# Altium footprint library Con IDC.PcbLib: 105 footprints (part 7 of 7)
Each footprint in its own frame and in the unit in brackets; x right, y up, seen from the top. Pads: shape width x height; smd on the part's side, far side on the other; paste and mask are expansions set on the pad; w line width, h text height; cw(c..) or ccw(c..) is an arc to the next point about the centre after c.
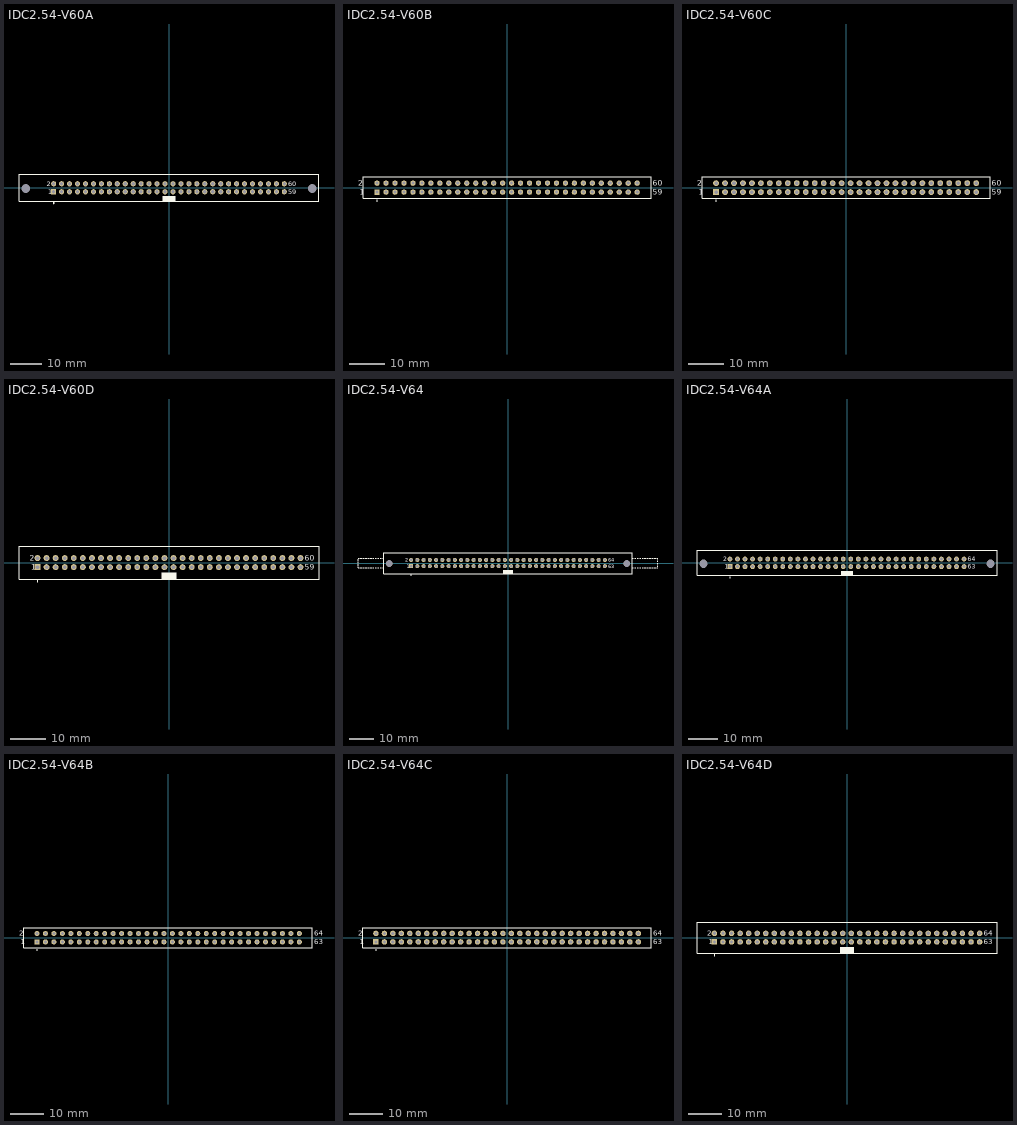
[diagram p6: the footprints below, top view; thin cyan lines are the x and y axes]

## IDC2.54-V60A [mm] "Connector; IDC, Thru-Hole; 60 Position; Vertical; Pitch 2.54 mm; Body 95.80 x 8.5 x 17.30 mm (LxWxH), Without locking levers"
height 17.3
pads (62):
  rect 1.65x1.65 hole 1: 1(-36.83,-1.27)
  round 1.65 hole 1: 2(-36.83,1.27) 3(-34.29,-1.27) 4(-34.29,1.27) 5(-31.75,-1.27) 6(-31.75,1.27) 7(-29.21,-1.27) 8(-29.21,1.27) 9(-26.67,-1.27) 10(-26.67,1.27) 11(-24.13,-1.27) 12(-24.13,1.27) 13(-21.59,-1.27) 14(-21.59,1.27) 15(-19.05,-1.27) 16(-19.05,1.27) 17(-16.51,-1.27) 18(-16.51,1.27) 19(-13.97,-1.27) 20(-13.97,1.27) 21(-11.43,-1.27) 22(-11.43,1.27) 23(-8.89,-1.27) 24(-8.89,1.27) 25(-6.35,-1.27) 26(-6.35,1.27) 27(-3.81,-1.27) 28(-3.81,1.27) 29(-1.27,-1.27) 30(-1.27,1.27) 31(1.27,-1.27) 32(1.27,1.27) 33(3.81,-1.27) 34(3.81,1.27) 35(6.35,-1.27) 36(6.35,1.27) 37(8.89,-1.27) 38(8.89,1.27) 39(11.43,-1.27) 40(11.43,1.27) 41(13.97,-1.27) 42(13.97,1.27) 43(16.51,-1.27) 44(16.51,1.27) 45(19.05,-1.27) 46(19.05,1.27) 47(21.59,-1.27) 48(21.59,1.27) 49(24.13,-1.27) 50(24.13,1.27) 51(26.67,-1.27) 52(26.67,1.27) 53(29.21,-1.27) 54(29.21,1.27) 55(31.75,-1.27) 56(31.75,1.27) 57(34.29,-1.27) 58(34.29,1.27) 59(36.83,-1.27) 60(36.83,1.27)
  round 2.5 hole 2.8 unplated: MH1(-45.72,-0.25) MH2(45.72,-0.25)
Top Overlay:
  circle w0.25: c-36.83,-4.9 r0.125
  rectangle: -2.05,-4.25 2.05,-2.7
  lines w0.2: -47.9,-4.25 47.9,-4.25 47.9,4.25 -47.9,4.25 -47.9,-4.25
  text "59" at 38.11,-2.02 h1.5
  text "60" at 38.11,0.52 h1.5
  text "1" at -38.61,-2.02 h1.5
  text "2" at -39.11,0.52 h1.5

## IDC2.54-V60B [mm] "Connector; IDC, PCB Transition - 2 Rows, Thru-Hole; 60 Position; Vertical; Pitch 2.54 mm; Body 81.50 x 6.1 x 7.45 mm (LxWxH)"
height 7.45
pads (60):
  rect 1.5x1.5 hole 0.9: 1(-36.83,-1.27)
  round 1.5 hole 0.9: 2(-36.83,1.27) 3(-34.29,-1.27) 4(-34.29,1.27) 5(-31.75,-1.27) 6(-31.75,1.27) 7(-29.21,-1.27) 8(-29.21,1.27) 9(-26.67,-1.27) 10(-26.67,1.27) 11(-24.13,-1.27) 12(-24.13,1.27) 13(-21.59,-1.27) 14(-21.59,1.27) 15(-19.05,-1.27) 16(-19.05,1.27) 17(-16.51,-1.27) 18(-16.51,1.27) 19(-13.97,-1.27) 20(-13.97,1.27) 21(-11.43,-1.27) 22(-11.43,1.27) 23(-8.89,-1.27) 24(-8.89,1.27) 25(-6.35,-1.27) 26(-6.35,1.27) 27(-3.81,-1.27) 28(-3.81,1.27) 29(-1.27,-1.27) 30(-1.27,1.27) 31(1.27,-1.27) 32(1.27,1.27) 33(3.81,-1.27) 34(3.81,1.27) 35(6.35,-1.27) 36(6.35,1.27) 37(8.89,-1.27) 38(8.89,1.27) 39(11.43,-1.27) 40(11.43,1.27) 41(13.97,-1.27) 42(13.97,1.27) 43(16.51,-1.27) 44(16.51,1.27) 45(19.05,-1.27) 46(19.05,1.27) 47(21.59,-1.27) 48(21.59,1.27) 49(24.13,-1.27) 50(24.13,1.27) 51(26.67,-1.27) 52(26.67,1.27) 53(29.21,-1.27) 54(29.21,1.27) 55(31.75,-1.27) 56(31.75,1.27) 57(34.29,-1.27) 58(34.29,1.27) 59(36.83,-1.27) 60(36.83,1.27)
Top Overlay:
  circle w0.25: c-36.83,-3.7 r0.125
  lines w0.2: -40.75,-3.05 -40.75,3.05 40.75,3.05 40.75,-3.05 -40.75,-3.05
  text "60" at 41.225,0.52 h1.5
  text "59" at 41.225,-2.02 h1.5
  text "2" at -42.225,0.52 h1.5
  text "1" at -41.725,-2.02 h1.5

## IDC2.54-V60C [mm] "Connector; IDC, PCB Transition - 2 Rows, Thru-Hole; 60 Position; Vertical; Pitch 2.54 mm; Body 81.50 x 6.1 x 7.45 mm (LxWxH), Kinked Contacts"
height 7.45
pads (60):
  rect 1.65x1.65 hole 1: 1(-36.83,-1.27)
  round 1.65 hole 1: 2(-36.83,1.27) 3(-34.29,-1.27) 4(-34.29,1.27) 5(-31.75,-1.27) 6(-31.75,1.27) 7(-29.21,-1.27) 8(-29.21,1.27) 9(-26.67,-1.27) 10(-26.67,1.27) 11(-24.13,-1.27) 12(-24.13,1.27) 13(-21.59,-1.27) 14(-21.59,1.27) 15(-19.05,-1.27) 16(-19.05,1.27) 17(-16.51,-1.27) 18(-16.51,1.27) 19(-13.97,-1.27) 20(-13.97,1.27) 21(-11.43,-1.27) 22(-11.43,1.27) 23(-8.89,-1.27) 24(-8.89,1.27) 25(-6.35,-1.27) 26(-6.35,1.27) 27(-3.81,-1.27) 28(-3.81,1.27) 29(-1.27,-1.27) 30(-1.27,1.27) 31(1.27,-1.27) 32(1.27,1.27) 33(3.81,-1.27) 34(3.81,1.27) 35(6.35,-1.27) 36(6.35,1.27) 37(8.89,-1.27) 38(8.89,1.27) 39(11.43,-1.27) 40(11.43,1.27) 41(13.97,-1.27) 42(13.97,1.27) 43(16.51,-1.27) 44(16.51,1.27) 45(19.05,-1.27) 46(19.05,1.27) 47(21.59,-1.27) 48(21.59,1.27) 49(24.13,-1.27) 50(24.13,1.27) 51(26.67,-1.27) 52(26.67,1.27) 53(29.21,-1.27) 54(29.21,1.27) 55(31.75,-1.27) 56(31.75,1.27) 57(34.29,-1.27) 58(34.29,1.27) 59(36.83,-1.27) 60(36.83,1.27)
Top Overlay:
  circle w0.25: c-36.83,-3.7 r0.125
  lines w0.2: -40.75,-3.05 40.75,-3.05 40.75,3.05 -40.75,3.05 -40.75,-3.05
  text "1" at -41.725,-2.02 h1.5
  text "2" at -42.225,0.52 h1.5
  text "59" at 41.225,-2.02 h1.5
  text "60" at 41.225,0.52 h1.5

## IDC2.54-V60D [mm] "Connector; IDC, Low Profile Male Header, Thru-Hole; 60 Position; Vertical; Pitch 2.54 mm; Body 84.02 x 9.2 x 9.45 mm (LxWxH)"
height 9.45
pads (60):
  rect 1.65x1.65 hole 1: 1(-36.83,-1.27)
  round 1.65 hole 1: 2(-36.83,1.27) 3(-34.29,-1.27) 4(-34.29,1.27) 5(-31.75,-1.27) 6(-31.75,1.27) 7(-29.21,-1.27) 8(-29.21,1.27) 9(-26.67,-1.27) 10(-26.67,1.27) 11(-24.13,-1.27) 12(-24.13,1.27) 13(-21.59,-1.27) 14(-21.59,1.27) 15(-19.05,-1.27) 16(-19.05,1.27) 17(-16.51,-1.27) 18(-16.51,1.27) 19(-13.97,-1.27) 20(-13.97,1.27) 21(-11.43,-1.27) 22(-11.43,1.27) 23(-8.89,-1.27) 24(-8.89,1.27) 25(-6.35,-1.27) 26(-6.35,1.27) 27(-3.81,-1.27) 28(-3.81,1.27) 29(-1.27,-1.27) 30(-1.27,1.27) 31(1.27,-1.27) 32(1.27,1.27) 33(3.81,-1.27) 34(3.81,1.27) 35(6.35,-1.27) 36(6.35,1.27) 37(8.89,-1.27) 38(8.89,1.27) 39(11.43,-1.27) 40(11.43,1.27) 41(13.97,-1.27) 42(13.97,1.27) 43(16.51,-1.27) 44(16.51,1.27) 45(19.05,-1.27) 46(19.05,1.27) 47(21.59,-1.27) 48(21.59,1.27) 49(24.13,-1.27) 50(24.13,1.27) 51(26.67,-1.27) 52(26.67,1.27) 53(29.21,-1.27) 54(29.21,1.27) 55(31.75,-1.27) 56(31.75,1.27) 57(34.29,-1.27) 58(34.29,1.27) 59(36.83,-1.27) 60(36.83,1.27)
Top Overlay:
  circle w0.25: c-36.83,-5.25 r0.125
  rectangle: -2.05,-4.6 2.05,-2.7
  lines w0.2: -42.01,-4.6 42.01,-4.6 42.01,4.6 -42.01,4.6 -42.01,-4.6
  text "59" at 38.03,-2.02 h1.5
  text "60" at 38.03,0.52 h1.5
  text "1" at -38.53,-2.02 h1.5
  text "2" at -39.03,0.52 h1.5

## IDC2.54-V64 [mm] "Connector; IDC, Thru-Hole; 64 Position; Vertical; Pitch 2.54 mm; Body 100.88 x 8.5 x 25.75 mm (LxWxH), Locking levers"
height 25.75
pads (66):
  rect 1.65x1.65 hole 1: 1(-39.37,-1.27)
  round 1.65 hole 1: 2(-39.37,1.27) 3(-36.83,-1.27) 4(-36.83,1.27) 5(-34.29,-1.27) 6(-34.29,1.27) 7(-31.75,-1.27) 8(-31.75,1.27) 9(-29.21,-1.27) 10(-29.21,1.27) 11(-26.67,-1.27) 12(-26.67,1.27) 13(-24.13,-1.27) 14(-24.13,1.27) 15(-21.59,-1.27) 16(-21.59,1.27) 17(-19.05,-1.27) 18(-19.05,1.27) 19(-16.51,-1.27) 20(-16.51,1.27) 21(-13.97,-1.27) 22(-13.97,1.27) 23(-11.43,-1.27) 24(-11.43,1.27) 25(-8.89,-1.27) 26(-8.89,1.27) 27(-6.35,-1.27) 28(-6.35,1.27) 29(-3.81,-1.27) 30(-3.81,1.27) 31(-1.27,-1.27) 32(-1.27,1.27) 33(1.27,-1.27) 34(1.27,1.27) 35(3.81,-1.27) 36(3.81,1.27) 37(6.35,-1.27) 38(6.35,1.27) 39(8.89,-1.27) 40(8.89,1.27) 41(11.43,-1.27) 42(11.43,1.27) 43(13.97,-1.27) 44(13.97,1.27) 45(16.51,-1.27) 46(16.51,1.27) 47(19.05,-1.27) 48(19.05,1.27) 49(21.59,-1.27) 50(21.59,1.27) 51(24.13,-1.27) 52(24.13,1.27) 53(26.67,-1.27) 54(26.67,1.27) 55(29.21,-1.27) 56(29.21,1.27) 57(31.75,-1.27) 58(31.75,1.27) 59(34.29,-1.27) 60(34.29,1.27) 61(36.83,-1.27) 62(36.83,1.27) 63(39.37,-1.27) 64(39.37,1.27)
  round 2.5 hole 2.8 unplated: MH1(-48.26,-0.25) MH2(48.26,-0.25)
Top Overlay:
  circle w0.25: c-39.37,-4.9 r0.125
  rectangle: -2.05,-4.25 2.05,-2.75
  lines w0.2: -60.94,-1.5 -60.94,-2 -60.44,-2 ; -60.94,-1 -60.94,-0.5 ; -60.94,0 -60.94,0.5 ; -60.94,1 -60.94,1.5 ; -60.94,2 -60.44,2 ; -59.94,-2 -59.44,-2 ; -59.94,2 -59.44,2 ; -58.94,-2 -58.44,-2 ; -58.94,2 -58.44,2 ; -57.94,-2 -57.44,-2 ; -57.94,2 -57.44,2 ; -56.94,-2 -56.44,-2 ; -56.94,2 -56.44,2 ; -55.94,-2 -55.44,-2 ; -55.94,2 -55.44,2 ; -54.94,-2 -54.44,-2 ; -54.94,2 -54.44,2 ; -53.94,-2 -53.44,-2 ; -53.94,2 -53.44,2 ; -52.94,-2 -52.44,-2 ; -52.94,2 -52.44,2 ; -51.94,-2 -51.44,-2 ; -51.94,2 -51.44,2 ; -50.94,-2 -50.44,-2 ; -50.94,2 -50.44,2 ; 50.44,-2 50.94,-2 ; 50.44,2 50.94,2 ; 51.44,-2 51.94,-2 ; 51.44,2 51.94,2 ; 52.44,-2 52.94,-2 ; 52.44,2 52.94,2 ; 53.44,-2 53.94,-2 ; 53.44,2 53.94,2 ; 54.44,-2 54.94,-2 ; 54.44,2 54.94,2 ; 55.44,-2 55.94,-2 ; 55.44,2 55.94,2 ; 56.44,-2 56.94,-2 ; 56.44,2 56.94,2 ; 57.44,-2 57.94,-2 ; 57.44,2 57.94,2 ; 58.44,-2 58.94,-2 ; 58.44,2 58.94,2 ; 59.44,-2 59.94,-2 ; 59.44,2 59.94,2 ; 60.44,-2 60.94,-2 ; 60.44,2 60.94,2 60.94,1.5 ; 60.94,-1.5 60.94,-1 ; 60.94,-0.5 60.94,0 ; 60.94,0.5 60.94,1 ; -50.44,-4.25 -50.44,4.25 50.44,4.25 50.44,-4.25 -50.44,-4.25
  text "2" at -41.65,0.52 h1.5
  text "1" at -41.15,-2.02 h1.5
  text "64" at 40.65,0.52 h1.5
  text "63" at 40.65,-2.02 h1.5

## IDC2.54-V64A [mm] "Connector; IDC, Thru-Hole; 64 Position; Vertical; Pitch 2.54 mm; Body 100.88 x 8.5 x 17.30 mm (LxWxH), Without locking levers"
height 17.3
pads (66):
  rect 1.65x1.65 hole 1: 1(-39.37,-1.27)
  round 1.65 hole 1: 2(-39.37,1.27) 3(-36.83,-1.27) 4(-36.83,1.27) 5(-34.29,-1.27) 6(-34.29,1.27) 7(-31.75,-1.27) 8(-31.75,1.27) 9(-29.21,-1.27) 10(-29.21,1.27) 11(-26.67,-1.27) 12(-26.67,1.27) 13(-24.13,-1.27) 14(-24.13,1.27) 15(-21.59,-1.27) 16(-21.59,1.27) 17(-19.05,-1.27) 18(-19.05,1.27) 19(-16.51,-1.27) 20(-16.51,1.27) 21(-13.97,-1.27) 22(-13.97,1.27) 23(-11.43,-1.27) 24(-11.43,1.27) 25(-8.89,-1.27) 26(-8.89,1.27) 27(-6.35,-1.27) 28(-6.35,1.27) 29(-3.81,-1.27) 30(-3.81,1.27) 31(-1.27,-1.27) 32(-1.27,1.27) 33(1.27,-1.27) 34(1.27,1.27) 35(3.81,-1.27) 36(3.81,1.27) 37(6.35,-1.27) 38(6.35,1.27) 39(8.89,-1.27) 40(8.89,1.27) 41(11.43,-1.27) 42(11.43,1.27) 43(13.97,-1.27) 44(13.97,1.27) 45(16.51,-1.27) 46(16.51,1.27) 47(19.05,-1.27) 48(19.05,1.27) 49(21.59,-1.27) 50(21.59,1.27) 51(24.13,-1.27) 52(24.13,1.27) 53(26.67,-1.27) 54(26.67,1.27) 55(29.21,-1.27) 56(29.21,1.27) 57(31.75,-1.27) 58(31.75,1.27) 59(34.29,-1.27) 60(34.29,1.27) 61(36.83,-1.27) 62(36.83,1.27) 63(39.37,-1.27) 64(39.37,1.27)
  round 2.5 hole 2.8 unplated: MH1(-48.26,-0.25) MH2(48.26,-0.25)
Top Overlay:
  circle w0.25: c-39.37,-4.9 r0.125
  rectangle: -2.05,-4.25 2.05,-2.75
  lines w0.2: -50.44,-4.25 -50.44,4.25 50.44,4.25 50.44,-4.25 -50.44,-4.25
  text "2" at -41.65,0.52 h1.5
  text "1" at -41.15,-2.02 h1.5
  text "64" at 40.65,0.52 h1.5
  text "63" at 40.65,-2.02 h1.5

## IDC2.54-V64B [mm] "Connector; IDC, PCB Transition - 2 Rows, Thru-Hole; 64 Position; Vertical; Pitch 2.54 mm; Body 86.58 x 6.1 x 7.45 mm (LxWxH)"
height 7.45
pads (64):
  rect 1.5x1.5 hole 0.9: 1(-39.37,-1.27)
  round 1.5 hole 0.9: 2(-39.37,1.27) 3(-36.83,-1.27) 4(-36.83,1.27) 5(-34.29,-1.27) 6(-34.29,1.27) 7(-31.75,-1.27) 8(-31.75,1.27) 9(-29.21,-1.27) 10(-29.21,1.27) 11(-26.67,-1.27) 12(-26.67,1.27) 13(-24.13,-1.27) 14(-24.13,1.27) 15(-21.59,-1.27) 16(-21.59,1.27) 17(-19.05,-1.27) 18(-19.05,1.27) 19(-16.51,-1.27) 20(-16.51,1.27) 21(-13.97,-1.27) 22(-13.97,1.27) 23(-11.43,-1.27) 24(-11.43,1.27) 25(-8.89,-1.27) 26(-8.89,1.27) 27(-6.35,-1.27) 28(-6.35,1.27) 29(-3.81,-1.27) 30(-3.81,1.27) 31(-1.27,-1.27) 32(-1.27,1.27) 33(1.27,-1.27) 34(1.27,1.27) 35(3.81,-1.27) 36(3.81,1.27) 37(6.35,-1.27) 38(6.35,1.27) 39(8.89,-1.27) 40(8.89,1.27) 41(11.43,-1.27) 42(11.43,1.27) 43(13.97,-1.27) 44(13.97,1.27) 45(16.51,-1.27) 46(16.51,1.27) 47(19.05,-1.27) 48(19.05,1.27) 49(21.59,-1.27) 50(21.59,1.27) 51(24.13,-1.27) 52(24.13,1.27) 53(26.67,-1.27) 54(26.67,1.27) 55(29.21,-1.27) 56(29.21,1.27) 57(31.75,-1.27) 58(31.75,1.27) 59(34.29,-1.27) 60(34.29,1.27) 61(36.83,-1.27) 62(36.83,1.27) 63(39.37,-1.27) 64(39.37,1.27)
Top Overlay:
  circle w0.25: c-39.37,-3.7 r0.125
  lines w0.2: -43.29,-3.05 -43.29,3.05 43.29,3.05 43.29,-3.05 -43.29,-3.05
  text "64" at 43.765,0.52 h1.5
  text "63" at 43.765,-2.02 h1.5
  text "2" at -44.765,0.52 h1.5
  text "1" at -44.265,-2.02 h1.5

## IDC2.54-V64C [mm] "Connector; IDC, PCB Transition - 2 Rows, Thru-Hole; 64 Position; Vertical; Pitch 2.54 mm; Body 86.58 x 6.1 x 7.45 mm (LxWxH), Kinked Contacts"
height 7.45
pads (64):
  rect 1.65x1.65 hole 1: 1(-39.37,-1.27)
  round 1.65 hole 1: 2(-39.37,1.27) 3(-36.83,-1.27) 4(-36.83,1.27) 5(-34.29,-1.27) 6(-34.29,1.27) 7(-31.75,-1.27) 8(-31.75,1.27) 9(-29.21,-1.27) 10(-29.21,1.27) 11(-26.67,-1.27) 12(-26.67,1.27) 13(-24.13,-1.27) 14(-24.13,1.27) 15(-21.59,-1.27) 16(-21.59,1.27) 17(-19.05,-1.27) 18(-19.05,1.27) 19(-16.51,-1.27) 20(-16.51,1.27) 21(-13.97,-1.27) 22(-13.97,1.27) 23(-11.43,-1.27) 24(-11.43,1.27) 25(-8.89,-1.27) 26(-8.89,1.27) 27(-6.35,-1.27) 28(-6.35,1.27) 29(-3.81,-1.27) 30(-3.81,1.27) 31(-1.27,-1.27) 32(-1.27,1.27) 33(1.27,-1.27) 34(1.27,1.27) 35(3.81,-1.27) 36(3.81,1.27) 37(6.35,-1.27) 38(6.35,1.27) 39(8.89,-1.27) 40(8.89,1.27) 41(11.43,-1.27) 42(11.43,1.27) 43(13.97,-1.27) 44(13.97,1.27) 45(16.51,-1.27) 46(16.51,1.27) 47(19.05,-1.27) 48(19.05,1.27) 49(21.59,-1.27) 50(21.59,1.27) 51(24.13,-1.27) 52(24.13,1.27) 53(26.67,-1.27) 54(26.67,1.27) 55(29.21,-1.27) 56(29.21,1.27) 57(31.75,-1.27) 58(31.75,1.27) 59(34.29,-1.27) 60(34.29,1.27) 61(36.83,-1.27) 62(36.83,1.27) 63(39.37,-1.27) 64(39.37,1.27)
Top Overlay:
  circle w0.25: c-39.37,-3.7 r0.125
  lines w0.2: -43.29,-3.05 -43.29,3.05 43.29,3.05 43.29,-3.05 -43.29,-3.05
  text "64" at 43.765,0.52 h1.5
  text "63" at 43.765,-2.02 h1.5
  text "2" at -44.765,0.52 h1.5
  text "1" at -44.265,-2.02 h1.5

## IDC2.54-V64D [mm] "Connector; IDC, Low Profile Male Header, Thru-Hole; 64 Position; Vertical; Pitch 2.54 mm; Body 89.10 x 9.2 x 9.45 mm (LxWxH)"
height 9.45
pads (64):
  rect 1.65x1.65 hole 1: 1(-39.37,-1.27)
  round 1.65 hole 1: 2(-39.37,1.27) 3(-36.83,-1.27) 4(-36.83,1.27) 5(-34.29,-1.27) 6(-34.29,1.27) 7(-31.75,-1.27) 8(-31.75,1.27) 9(-29.21,-1.27) 10(-29.21,1.27) 11(-26.67,-1.27) 12(-26.67,1.27) 13(-24.13,-1.27) 14(-24.13,1.27) 15(-21.59,-1.27) 16(-21.59,1.27) 17(-19.05,-1.27) 18(-19.05,1.27) 19(-16.51,-1.27) 20(-16.51,1.27) 21(-13.97,-1.27) 22(-13.97,1.27) 23(-11.43,-1.27) 24(-11.43,1.27) 25(-8.89,-1.27) 26(-8.89,1.27) 27(-6.35,-1.27) 28(-6.35,1.27) 29(-3.81,-1.27) 30(-3.81,1.27) 31(-1.27,-1.27) 32(-1.27,1.27) 33(1.27,-1.27) 34(1.27,1.27) 35(3.81,-1.27) 36(3.81,1.27) 37(6.35,-1.27) 38(6.35,1.27) 39(8.89,-1.27) 40(8.89,1.27) 41(11.43,-1.27) 42(11.43,1.27) 43(13.97,-1.27) 44(13.97,1.27) 45(16.51,-1.27) 46(16.51,1.27) 47(19.05,-1.27) 48(19.05,1.27) 49(21.59,-1.27) 50(21.59,1.27) 51(24.13,-1.27) 52(24.13,1.27) 53(26.67,-1.27) 54(26.67,1.27) 55(29.21,-1.27) 56(29.21,1.27) 57(31.75,-1.27) 58(31.75,1.27) 59(34.29,-1.27) 60(34.29,1.27) 61(36.83,-1.27) 62(36.83,1.27) 63(39.37,-1.27) 64(39.37,1.27)
Top Overlay:
  circle w0.25: c-39.37,-5.25 r0.125
  rectangle: -2.05,-4.6 2.05,-2.75
  lines w0.2: -44.55,-4.6 44.55,-4.6 44.55,4.6 -44.55,4.6 -44.55,-4.6
  text "63" at 40.57,-2.02 h1.5
  text "64" at 40.57,0.52 h1.5
  text "1" at -41.07,-2.02 h1.5
  text "2" at -41.57,0.52 h1.5